# Altium schematic symbol library JST.SchLib: 4 symbols
Pins are listed as number, name and electrical type; pins without a type are passive.

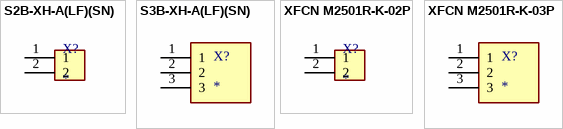
[diagram p0: symbols S2B-XH-A(LF)(SN) to XFCN M2501R-K-03P]

## S2B-XH-A(LF)(SN)
designator X?
Connector Header Through Hole, Right Angle 2 position 0.098 (2.50mm); Part Number: S2B-XH-A(LF)(SN); Manufacturer: JST Sales America Inc.; Package: None; Value: *; Price: None; SnapEDA_Link: https://www.snapeda.com/parts/S2B-XH-A(LF)(SN)/JST%20Sales%20America%20Inc./view-part/46871/?ref=snap; Check_prices: https://www.snapeda.com/parts/S2B-XH-A(LF)(SN)/JST%20Sales%20America%20Inc./view-part/46871/?ref=eda; Availability: In Stock
footprint JST_S2B-XH-A(LF)(SN)
pins: 1, 2

## S3B-XH-A(LF)(SN)
designator X?
Connector Header Through Hole, Right Angle 3 position 0.098 (2.50mm); Part Number: S3B-XH-A(LF)(SN); Manufacturer: JST Sales America Inc.; SnapEDA_Link: https://www.snapeda.com/parts/S3B-XH-A%28LF%29%28SN%29/JST%20Sales%20America%20Inc./view-part/46873/?ref=snap; Availability: Unavailable; Package: FakePackage u; Value: *; Price: None
footprint JST_S3B-XH-A(LF)(SN)
pins: 1, 2, 3

## XFCN M2501R-K-02P
designator X?
Connector Header Through Hole, Right Angle 2 position 0.098 (2.50mm); Part Number: M2501R-K-02P; Manufacturer: XFCN; Package: None; Value: *; Price: None; Availability: In Stock; LCSC Part Number: C492474
footprint JST_S2B-XH-A(LF)(SN)
pins: 1, 2

## XFCN M2501R-K-03P
designator X?
Connector Header Through Hole, Right Angle 3 position 0.098 (2.50mm); Part Number: M2501R-K-03P; Manufacturer: XFCN; Availability: Unavailable; Package: FakePackage u; Value: *; Price: None; LCSC Part Number: C492475
footprint JST_S3B-XH-A(LF)(SN)
pins: 1, 2, 3